# Altium schematic symbol library kmilo17pet-NSC_Switcher.SchLib: 2226 symbols (part 1 of 59)
Pins are listed as number, name and electrical type; pins without a type are passive.

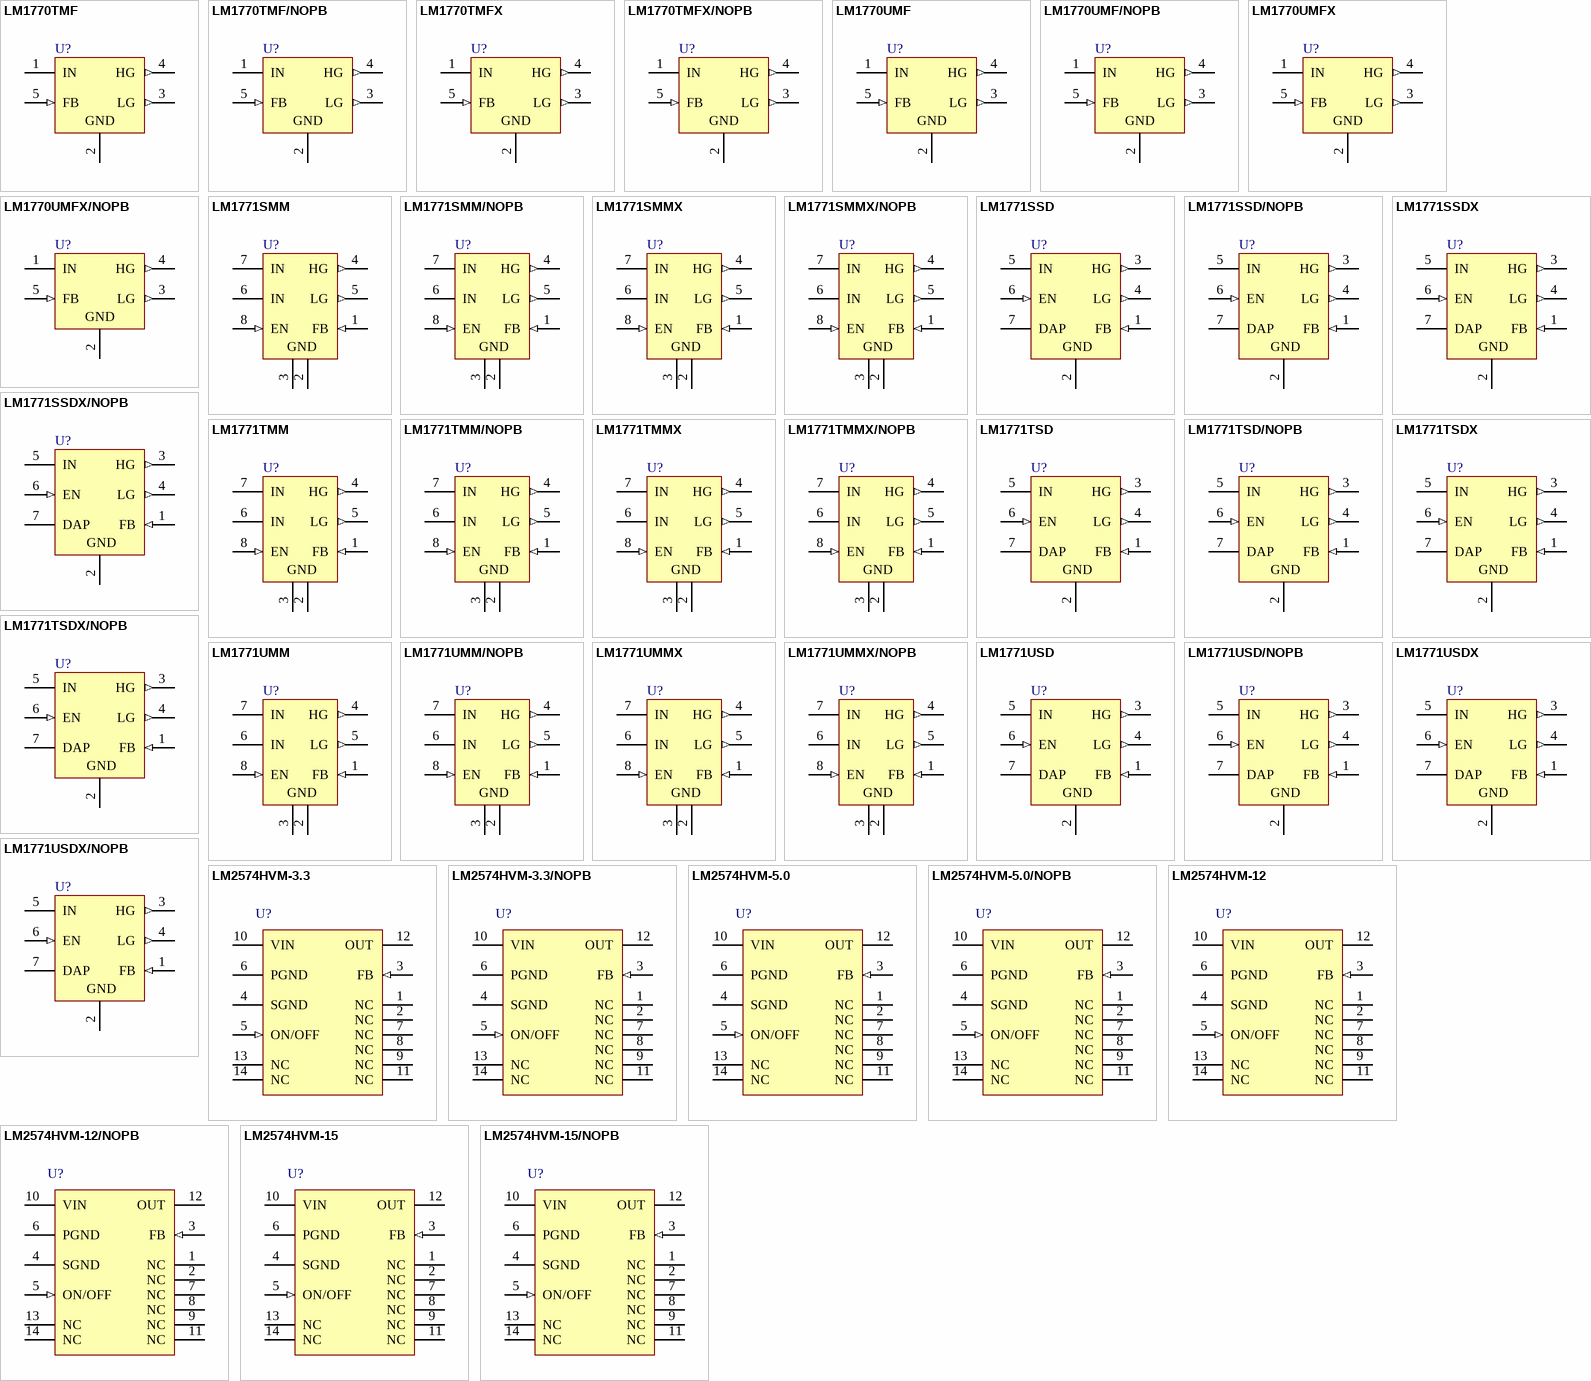
[diagram p0: symbols LM1770TMF to LM2574HVM-15/NOPB]

## LM1770TMF
designator U?
Low-Voltage Synchronous Buck Controller With No External Compensation, 5-pin SOT-23; PartNumber: LM1770TMF; Manufacturer: National Semiconductor; PackageTopMarking: SKKB*XTT; PowerWise: Y; CompType: Switcher; DatasheetVersion: Jul-2006; PackageVersion: revD, Aug-2008; PackageReference: MF05A; PackageDescription: Molded SOT-23, .115 x .063 x .040 in Body, 5 Lead, .0375 in Pitch; RoHS: N; PinCount: 5; High-Reliability: Y; ComponentLink1Description: Manufacturer URL; ComponentLink1URL: http://www.national.com/; ComponentLink2Description: LM1770 Datasheet; ComponentLink2URL: http://www.national.com/ds/LM/LM1770.pdf; ComponentLink3Description: LM1770 Web Page; ComponentLink3URL: http://www.national.com/pf/LM/LM1770.html; ComponentLink4Description: MF05A Package Page; ComponentLink4URL: http://www.national.com/packaging/folders/mf05a.html
footprint MF05A_N (SOT23, 5-Leads, Body 2.9x1.6mm, Pitch 0.95mm, Lead Span 2.8mm, IPC Medium Density)
footprint MF05A_L (SOT23, 5-Leads, Body 2.9x1.6mm, Pitch 0.95mm, Lead Span 2.8mm, IPC High Density)
footprint MF05A_M (SOT23, 5-Leads, Body 2.9x1.6mm, Pitch 0.95mm, Lead Span 2.8mm, IPC Low Density)
pins: 1 IN (power), 2 GND (power), 3 LG (out), 4 HG (out), 5 FB (in)

## LM1770TMF/NOPB
designator U?
Low-Voltage Synchronous Buck Controller With No External Compensation, 5-pin SOT-23, Pb-Free; PartNumber: LM1770TMF/NOPB; Manufacturer: National Semiconductor; PackageTopMarking: SKKB*XTT; PowerWise: Y; CompType: Switcher; DatasheetVersion: Jul-2006; PackageVersion: revD, Aug-2008; PackageReference: MF05A; PackageDescription: Molded SOT-23, .115 x .063 x .040 in Body, 5 Lead, .0375 in Pitch; RoHS: Y; PinCount: 5; High-Reliability: Y; ComponentLink1Description: Manufacturer URL; ComponentLink1URL: http://www.national.com/; ComponentLink2Description: LM1770 Datasheet; ComponentLink2URL: http://www.national.com/ds/LM/LM1770.pdf; ComponentLink3Description: LM1770 Web Page; ComponentLink3URL: http://www.national.com/pf/LM/LM1770.html; ComponentLink4Description: MF05A Package Page; ComponentLink4URL: http://www.national.com/packaging/folders/mf05a.html
footprint MF05A_N (SOT23, 5-Leads, Body 2.9x1.6mm, Pitch 0.95mm, Lead Span 2.8mm, IPC Medium Density)
footprint MF05A_L (SOT23, 5-Leads, Body 2.9x1.6mm, Pitch 0.95mm, Lead Span 2.8mm, IPC High Density)
footprint MF05A_M (SOT23, 5-Leads, Body 2.9x1.6mm, Pitch 0.95mm, Lead Span 2.8mm, IPC Low Density)
pins: 1 IN (power), 2 GND (power), 3 LG (out), 4 HG (out), 5 FB (in)

## LM1770TMFX
designator U?
Low-Voltage Synchronous Buck Controller With No External Compensation, 5-pin SOT-23; PartNumber: LM1770TMFX; Manufacturer: National Semiconductor; PackageTopMarking: SKKB*XTT; PowerWise: Y; CompType: Switcher; DatasheetVersion: Jul-2006; PackageVersion: revD, Aug-2008; PackageReference: MF05A; PackageDescription: Molded SOT-23, .115 x .063 x .040 in Body, 5 Lead, .0375 in Pitch; RoHS: N; PinCount: 5; High-Reliability: Y; ComponentLink1Description: Manufacturer URL; ComponentLink1URL: http://www.national.com/; ComponentLink2Description: LM1770 Datasheet; ComponentLink2URL: http://www.national.com/ds/LM/LM1770.pdf; ComponentLink3Description: LM1770 Web Page; ComponentLink3URL: http://www.national.com/pf/LM/LM1770.html; ComponentLink4Description: MF05A Package Page; ComponentLink4URL: http://www.national.com/packaging/folders/mf05a.html
footprint MF05A_N (SOT23, 5-Leads, Body 2.9x1.6mm, Pitch 0.95mm, Lead Span 2.8mm, IPC Medium Density)
footprint MF05A_L (SOT23, 5-Leads, Body 2.9x1.6mm, Pitch 0.95mm, Lead Span 2.8mm, IPC High Density)
footprint MF05A_M (SOT23, 5-Leads, Body 2.9x1.6mm, Pitch 0.95mm, Lead Span 2.8mm, IPC Low Density)
pins: 1 IN (power), 2 GND (power), 3 LG (out), 4 HG (out), 5 FB (in)

## LM1770TMFX/NOPB
designator U?
Low-Voltage Synchronous Buck Controller With No External Compensation, 5-pin SOT-23, Pb-Free; PartNumber: LM1770TMFX/NOPB; Manufacturer: National Semiconductor; PackageTopMarking: SKKB*XTT; PowerWise: Y; CompType: Switcher; DatasheetVersion: Jul-2006; PackageVersion: revD, Aug-2008; PackageReference: MF05A; PackageDescription: Molded SOT-23, .115 x .063 x .040 in Body, 5 Lead, .0375 in Pitch; RoHS: Y; PinCount: 5; High-Reliability: Y; ComponentLink1Description: Manufacturer URL; ComponentLink1URL: http://www.national.com/; ComponentLink2Description: LM1770 Datasheet; ComponentLink2URL: http://www.national.com/ds/LM/LM1770.pdf; ComponentLink3Description: LM1770 Web Page; ComponentLink3URL: http://www.national.com/pf/LM/LM1770.html; ComponentLink4Description: MF05A Package Page; ComponentLink4URL: http://www.national.com/packaging/folders/mf05a.html
footprint MF05A_N (SOT23, 5-Leads, Body 2.9x1.6mm, Pitch 0.95mm, Lead Span 2.8mm, IPC Medium Density)
footprint MF05A_L (SOT23, 5-Leads, Body 2.9x1.6mm, Pitch 0.95mm, Lead Span 2.8mm, IPC High Density)
footprint MF05A_M (SOT23, 5-Leads, Body 2.9x1.6mm, Pitch 0.95mm, Lead Span 2.8mm, IPC Low Density)
pins: 1 IN (power), 2 GND (power), 3 LG (out), 4 HG (out), 5 FB (in)

## LM1770UMF
designator U?
Low-Voltage Synchronous Buck Controller With No External Compensation, 5-pin SOT-23; PartNumber: LM1770UMF; Manufacturer: National Semiconductor; PackageTopMarking: SKLB*XTT; PowerWise: Y; CompType: Switcher; DatasheetVersion: Jul-2006; PackageVersion: revD, Aug-2008; PackageReference: MF05A; PackageDescription: Molded SOT-23, .115 x .063 x .040 in Body, 5 Lead, .0375 in Pitch; RoHS: N; PinCount: 5; High-Reliability: Y; ComponentLink1Description: Manufacturer URL; ComponentLink1URL: http://www.national.com/; ComponentLink2Description: LM1770 Datasheet; ComponentLink2URL: http://www.national.com/ds/LM/LM1770.pdf; ComponentLink3Description: LM1770 Web Page; ComponentLink3URL: http://www.national.com/pf/LM/LM1770.html; ComponentLink4Description: MF05A Package Page; ComponentLink4URL: http://www.national.com/packaging/folders/mf05a.html
footprint MF05A_N (SOT23, 5-Leads, Body 2.9x1.6mm, Pitch 0.95mm, Lead Span 2.8mm, IPC Medium Density)
footprint MF05A_L (SOT23, 5-Leads, Body 2.9x1.6mm, Pitch 0.95mm, Lead Span 2.8mm, IPC High Density)
footprint MF05A_M (SOT23, 5-Leads, Body 2.9x1.6mm, Pitch 0.95mm, Lead Span 2.8mm, IPC Low Density)
pins: 1 IN (power), 2 GND (power), 3 LG (out), 4 HG (out), 5 FB (in)

## LM1770UMF/NOPB
designator U?
Low-Voltage Synchronous Buck Controller With No External Compensation, 5-pin SOT-23, Pb-Free; PartNumber: LM1770UMF/NOPB; Manufacturer: National Semiconductor; PackageTopMarking: SKLB*XTT; PowerWise: Y; CompType: Switcher; DatasheetVersion: Jul-2006; PackageVersion: revD, Aug-2008; PackageReference: MF05A; PackageDescription: Molded SOT-23, .115 x .063 x .040 in Body, 5 Lead, .0375 in Pitch; RoHS: Y; PinCount: 5; High-Reliability: Y; ComponentLink1Description: Manufacturer URL; ComponentLink1URL: http://www.national.com/; ComponentLink2Description: LM1770 Datasheet; ComponentLink2URL: http://www.national.com/ds/LM/LM1770.pdf; ComponentLink3Description: LM1770 Web Page; ComponentLink3URL: http://www.national.com/pf/LM/LM1770.html; ComponentLink4Description: MF05A Package Page; ComponentLink4URL: http://www.national.com/packaging/folders/mf05a.html
footprint MF05A_N (SOT23, 5-Leads, Body 2.9x1.6mm, Pitch 0.95mm, Lead Span 2.8mm, IPC Medium Density)
footprint MF05A_L (SOT23, 5-Leads, Body 2.9x1.6mm, Pitch 0.95mm, Lead Span 2.8mm, IPC High Density)
footprint MF05A_M (SOT23, 5-Leads, Body 2.9x1.6mm, Pitch 0.95mm, Lead Span 2.8mm, IPC Low Density)
pins: 1 IN (power), 2 GND (power), 3 LG (out), 4 HG (out), 5 FB (in)

## LM1770UMFX
designator U?
Low-Voltage Synchronous Buck Controller With No External Compensation, 5-pin SOT-23; PartNumber: LM1770UMFX; Manufacturer: National Semiconductor; PackageTopMarking: SKLB*XTT; PowerWise: Y; CompType: Switcher; DatasheetVersion: Jul-2006; PackageVersion: revD, Aug-2008; PackageReference: MF05A; PackageDescription: Molded SOT-23, .115 x .063 x .040 in Body, 5 Lead, .0375 in Pitch; RoHS: N; PinCount: 5; High-Reliability: Y; ComponentLink1Description: Manufacturer URL; ComponentLink1URL: http://www.national.com/; ComponentLink2Description: LM1770 Datasheet; ComponentLink2URL: http://www.national.com/ds/LM/LM1770.pdf; ComponentLink3Description: LM1770 Web Page; ComponentLink3URL: http://www.national.com/pf/LM/LM1770.html; ComponentLink4Description: MF05A Package Page; ComponentLink4URL: http://www.national.com/packaging/folders/mf05a.html
footprint MF05A_N (SOT23, 5-Leads, Body 2.9x1.6mm, Pitch 0.95mm, Lead Span 2.8mm, IPC Medium Density)
footprint MF05A_L (SOT23, 5-Leads, Body 2.9x1.6mm, Pitch 0.95mm, Lead Span 2.8mm, IPC High Density)
footprint MF05A_M (SOT23, 5-Leads, Body 2.9x1.6mm, Pitch 0.95mm, Lead Span 2.8mm, IPC Low Density)
pins: 1 IN (power), 2 GND (power), 3 LG (out), 4 HG (out), 5 FB (in)

## LM1770UMFX/NOPB
designator U?
Low-Voltage Synchronous Buck Controller With No External Compensation, 5-pin SOT-23, Pb-Free; PartNumber: LM1770UMFX/NOPB; Manufacturer: National Semiconductor; PackageTopMarking: SKLB*XTT; PowerWise: Y; CompType: Switcher; DatasheetVersion: Jul-2006; PackageVersion: revD, Aug-2008; PackageReference: MF05A; PackageDescription: Molded SOT-23, .115 x .063 x .040 in Body, 5 Lead, .0375 in Pitch; RoHS: Y; PinCount: 5; High-Reliability: Y; ComponentLink1Description: Manufacturer URL; ComponentLink1URL: http://www.national.com/; ComponentLink2Description: LM1770 Datasheet; ComponentLink2URL: http://www.national.com/ds/LM/LM1770.pdf; ComponentLink3Description: LM1770 Web Page; ComponentLink3URL: http://www.national.com/pf/LM/LM1770.html; ComponentLink4Description: MF05A Package Page; ComponentLink4URL: http://www.national.com/packaging/folders/mf05a.html
footprint MF05A_N (SOT23, 5-Leads, Body 2.9x1.6mm, Pitch 0.95mm, Lead Span 2.8mm, IPC Medium Density)
footprint MF05A_L (SOT23, 5-Leads, Body 2.9x1.6mm, Pitch 0.95mm, Lead Span 2.8mm, IPC High Density)
footprint MF05A_M (SOT23, 5-Leads, Body 2.9x1.6mm, Pitch 0.95mm, Lead Span 2.8mm, IPC Low Density)
pins: 1 IN (power), 2 GND (power), 3 LG (out), 4 HG (out), 5 FB (in)

## LM1771SMM
designator U?
Low-Voltage Synchronous Buck Controller with Precision Enable and No External Compensation, 8-pin MSOP; PartNumber: LM1771SMM; Manufacturer: National Semiconductor; PackageTopMarking: ZXTT*SNRB; PowerWise: N; CompType: Switcher; High-Reliability: Y; DatasheetVersion: Oct-2006; PackageVersion: revF, Apr-2008; PackageReference: MUA08A; PackageDescription: MINI SOIC, .118 x .118 x .034in, 8 Lead, .0256in Pitch; RoHS: N; PinCount: 8; Code_JEDEC: MO-187-AA; ComponentLink1Description: Manufacturer URL; ComponentLink1URL: http://www.national.com/; ComponentLink2Description: LM1771 Datasheet; ComponentLink2URL: http://www.national.com/ds/LM/LM1771.pdf; ComponentLink3Description: LM1771 Web Page; ComponentLink3URL: http://www.national.com/pf/LM/LM1771.html; ComponentLink4Description: MUA08A Package Page; ComponentLink4URL: http://www.national.com/packaging/folders/mua08a.html
footprint MUA08A_N (TSOP, 8-Leads, Body 3x3mm, Pitch 0.65mm, IPC Medium Density)
footprint MUA08A_L (TSOP, 8-Leads, Body 3x3mm, Pitch 0.65mm, IPC High Density)
footprint MUA08A_M (TSOP, 8-Leads, Body 3x3mm, Pitch 0.65mm, IPC Low Density)
pins: 1 FB (in), 2 GND (power), 3 GND (power), 4 HG (out), 5 LG (out), 6 IN (power), 7 IN (power), 8 EN (in)

## LM1771SMM/NOPB
designator U?
Low-Voltage Synchronous Buck Controller with Precision Enable and No External Compensation, 8-pin MSOP, Pb-Free; PartNumber: LM1771SMM/NOPB; Manufacturer: National Semiconductor; PackageTopMarking: ZXTT*SNRB; PowerWise: N; CompType: Switcher; High-Reliability: Y; DatasheetVersion: Oct-2006; PackageVersion: revF, Apr-2008; PackageReference: MUA08A; PackageDescription: MINI SOIC, .118 x .118 x .034in, 8 Lead, .0256in Pitch; RoHS: Y; PinCount: 8; Code_JEDEC: MO-187-AA; ComponentLink1Description: Manufacturer URL; ComponentLink1URL: http://www.national.com/; ComponentLink2Description: LM1771 Datasheet; ComponentLink2URL: http://www.national.com/ds/LM/LM1771.pdf; ComponentLink3Description: LM1771 Web Page; ComponentLink3URL: http://www.national.com/pf/LM/LM1771.html; ComponentLink4Description: MUA08A Package Page; ComponentLink4URL: http://www.national.com/packaging/folders/mua08a.html
footprint MUA08A_N (TSOP, 8-Leads, Body 3x3mm, Pitch 0.65mm, IPC Medium Density)
footprint MUA08A_L (TSOP, 8-Leads, Body 3x3mm, Pitch 0.65mm, IPC High Density)
footprint MUA08A_M (TSOP, 8-Leads, Body 3x3mm, Pitch 0.65mm, IPC Low Density)
pins: 1 FB (in), 2 GND (power), 3 GND (power), 4 HG (out), 5 LG (out), 6 IN (power), 7 IN (power), 8 EN (in)

## LM1771SMMX
designator U?
Low-Voltage Synchronous Buck Controller with Precision Enable and No External Compensation, 8-pin MSOP; PartNumber: LM1771SMMX; Manufacturer: National Semiconductor; PackageTopMarking: ZXTT*SNRB; PowerWise: N; CompType: Switcher; High-Reliability: Y; DatasheetVersion: Oct-2006; PackageVersion: revF, Apr-2008; PackageReference: MUA08A; PackageDescription: MINI SOIC, .118 x .118 x .034in, 8 Lead, .0256in Pitch; RoHS: N; PinCount: 8; Code_JEDEC: MO-187-AA; ComponentLink1Description: Manufacturer URL; ComponentLink1URL: http://www.national.com/; ComponentLink2Description: LM1771 Datasheet; ComponentLink2URL: http://www.national.com/ds/LM/LM1771.pdf; ComponentLink3Description: LM1771 Web Page; ComponentLink3URL: http://www.national.com/pf/LM/LM1771.html; ComponentLink4Description: MUA08A Package Page; ComponentLink4URL: http://www.national.com/packaging/folders/mua08a.html
footprint MUA08A_N (TSOP, 8-Leads, Body 3x3mm, Pitch 0.65mm, IPC Medium Density)
footprint MUA08A_L (TSOP, 8-Leads, Body 3x3mm, Pitch 0.65mm, IPC High Density)
footprint MUA08A_M (TSOP, 8-Leads, Body 3x3mm, Pitch 0.65mm, IPC Low Density)
pins: 1 FB (in), 2 GND (power), 3 GND (power), 4 HG (out), 5 LG (out), 6 IN (power), 7 IN (power), 8 EN (in)

## LM1771SMMX/NOPB
designator U?
Low-Voltage Synchronous Buck Controller with Precision Enable and No External Compensation, 8-pin MSOP, Pb-Free; PartNumber: LM1771SMMX/NOPB; Manufacturer: National Semiconductor; PackageTopMarking: ZXTT*SNRB; PowerWise: N; CompType: Switcher; High-Reliability: Y; DatasheetVersion: Oct-2006; PackageVersion: revF, Apr-2008; PackageReference: MUA08A; PackageDescription: MINI SOIC, .118 x .118 x .034in, 8 Lead, .0256in Pitch; RoHS: Y; PinCount: 8; Code_JEDEC: MO-187-AA; ComponentLink1Description: Manufacturer URL; ComponentLink1URL: http://www.national.com/; ComponentLink2Description: LM1771 Datasheet; ComponentLink2URL: http://www.national.com/ds/LM/LM1771.pdf; ComponentLink3Description: LM1771 Web Page; ComponentLink3URL: http://www.national.com/pf/LM/LM1771.html; ComponentLink4Description: MUA08A Package Page; ComponentLink4URL: http://www.national.com/packaging/folders/mua08a.html
footprint MUA08A_N (TSOP, 8-Leads, Body 3x3mm, Pitch 0.65mm, IPC Medium Density)
footprint MUA08A_L (TSOP, 8-Leads, Body 3x3mm, Pitch 0.65mm, IPC High Density)
footprint MUA08A_M (TSOP, 8-Leads, Body 3x3mm, Pitch 0.65mm, IPC Low Density)
pins: 1 FB (in), 2 GND (power), 3 GND (power), 4 HG (out), 5 LG (out), 6 IN (power), 7 IN (power), 8 EN (in)

## LM1771SSD
designator U?
Low-Voltage Synchronous Buck Controller with Precision Enable and No External Compensation, 6-pin LLP; PartNumber: LM1771SSD; Manufacturer: National Semiconductor; PackageTopMarking: ZXYTT*1771S; PowerWise: Y; CompType: Switcher; DatasheetVersion: Oct-2006; PackageVersion: revA, Jul-2003; PackageReference: SDE06A; PackageDescription: LLP, Plastic, Dual, 3 x 3 x 0.8mm Body, 6 Lead, 0.95mm Pitch, No Pullback; RoHS: N; PinCount: 6; High-Reliability: Y; ComponentLink1Description: Manufacturer URL; ComponentLink1URL: http://www.national.com/; ComponentLink2Description: LM1771 Datasheet; ComponentLink2URL: http://www.national.com/ds/LM/LM1771.pdf; ComponentLink3Description: LM1771 Web Page; ComponentLink3URL: http://www.national.com/pf/LM/LM1771.html; ComponentLink4Description: SDE06A Package Page; ComponentLink4URL: http://www.national.com/packaging/folders/sde06a.html
footprint SDE06A_full (SON, 6-Leads, Body 3x3 mm, Pitch 0.95mm, Full Paste, NSC Recommended)
footprint SDE06A_quad (SON, 6-Leads, Body 3x3 mm, Pitch 0.95mm, Quad Paste, NSC Recommended)
pins: 1 FB (in), 2 GND (power), 3 HG (out), 4 LG (out), 5 IN (power), 6 EN (in), 7 DAP (power)

## LM1771SSD/NOPB
designator U?
Low-Voltage Synchronous Buck Controller with Precision Enable and No External Compensation, 6-pin LLP, Pb-Free; PartNumber: LM1771SSD/NOPB; Manufacturer: National Semiconductor; PackageTopMarking: ZXYTT*1771S; PowerWise: Y; CompType: Switcher; DatasheetVersion: Oct-2006; PackageVersion: revA, Jul-2003; PackageReference: SDE06A; PackageDescription: LLP, Plastic, Dual, 3 x 3 x 0.8mm Body, 6 Lead, 0.95mm Pitch, No Pullback; RoHS: Y; PinCount: 6; High-Reliability: Y; ComponentLink1Description: Manufacturer URL; ComponentLink1URL: http://www.national.com/; ComponentLink2Description: LM1771 Datasheet; ComponentLink2URL: http://www.national.com/ds/LM/LM1771.pdf; ComponentLink3Description: LM1771 Web Page; ComponentLink3URL: http://www.national.com/pf/LM/LM1771.html; ComponentLink4Description: SDE06A Package Page; ComponentLink4URL: http://www.national.com/packaging/folders/sde06a.html
footprint SDE06A_full (SON, 6-Leads, Body 3x3 mm, Pitch 0.95mm, Full Paste, NSC Recommended)
footprint SDE06A_quad (SON, 6-Leads, Body 3x3 mm, Pitch 0.95mm, Quad Paste, NSC Recommended)
pins: 1 FB (in), 2 GND (power), 3 HG (out), 4 LG (out), 5 IN (power), 6 EN (in), 7 DAP (power)

## LM1771SSDX
designator U?
Low-Voltage Synchronous Buck Controller with Precision Enable and No External Compensation, 6-pin LLP; PartNumber: LM1771SSDX; Manufacturer: National Semiconductor; PackageTopMarking: ZXYTT*1771S; PowerWise: Y; CompType: Switcher; DatasheetVersion: Oct-2006; PackageVersion: revA, Jul-2003; PackageReference: SDE06A; PackageDescription: LLP, Plastic, Dual, 3 x 3 x 0.8mm Body, 6 Lead, 0.95mm Pitch, No Pullback; RoHS: N; PinCount: 6; High-Reliability: Y; ComponentLink1Description: Manufacturer URL; ComponentLink1URL: http://www.national.com/; ComponentLink2Description: LM1771 Datasheet; ComponentLink2URL: http://www.national.com/ds/LM/LM1771.pdf; ComponentLink3Description: LM1771 Web Page; ComponentLink3URL: http://www.national.com/pf/LM/LM1771.html; ComponentLink4Description: SDE06A Package Page; ComponentLink4URL: http://www.national.com/packaging/folders/sde06a.html
footprint SDE06A_full (SON, 6-Leads, Body 3x3 mm, Pitch 0.95mm, Full Paste, NSC Recommended)
footprint SDE06A_quad (SON, 6-Leads, Body 3x3 mm, Pitch 0.95mm, Quad Paste, NSC Recommended)
pins: 1 FB (in), 2 GND (power), 3 HG (out), 4 LG (out), 5 IN (power), 6 EN (in), 7 DAP (power)

## LM1771SSDX/NOPB
designator U?
Low-Voltage Synchronous Buck Controller with Precision Enable and No External Compensation, 6-pin LLP, Pb-Free; PartNumber: LM1771SSDX/NOPB; Manufacturer: National Semiconductor; PackageTopMarking: ZXYTT*1771S; PowerWise: Y; CompType: Switcher; DatasheetVersion: Oct-2006; PackageVersion: revA, Jul-2003; PackageReference: SDE06A; PackageDescription: LLP, Plastic, Dual, 3 x 3 x 0.8mm Body, 6 Lead, 0.95mm Pitch, No Pullback; RoHS: Y; PinCount: 6; High-Reliability: Y; ComponentLink1Description: Manufacturer URL; ComponentLink1URL: http://www.national.com/; ComponentLink2Description: LM1771 Datasheet; ComponentLink2URL: http://www.national.com/ds/LM/LM1771.pdf; ComponentLink3Description: LM1771 Web Page; ComponentLink3URL: http://www.national.com/pf/LM/LM1771.html; ComponentLink4Description: SDE06A Package Page; ComponentLink4URL: http://www.national.com/packaging/folders/sde06a.html
footprint SDE06A_full (SON, 6-Leads, Body 3x3 mm, Pitch 0.95mm, Full Paste, NSC Recommended)
footprint SDE06A_quad (SON, 6-Leads, Body 3x3 mm, Pitch 0.95mm, Quad Paste, NSC Recommended)
pins: 1 FB (in), 2 GND (power), 3 HG (out), 4 LG (out), 5 IN (power), 6 EN (in), 7 DAP (power)

## LM1771TMM
designator U?
Low-Voltage Synchronous Buck Controller with Precision Enable and No External Compensation, 8-pin MSOP; PartNumber: LM1771TMM; Manufacturer: National Semiconductor; PackageTopMarking: ZXTT*SNSB; PowerWise: N; CompType: Switcher; High-Reliability: Y; DatasheetVersion: Oct-2006; PackageVersion: revF, Apr-2008; PackageReference: MUA08A; PackageDescription: MINI SOIC, .118 x .118 x .034in, 8 Lead, .0256in Pitch; RoHS: N; PinCount: 8; Code_JEDEC: MO-187-AA; ComponentLink1Description: Manufacturer URL; ComponentLink1URL: http://www.national.com/; ComponentLink2Description: LM1771 Datasheet; ComponentLink2URL: http://www.national.com/ds/LM/LM1771.pdf; ComponentLink3Description: LM1771 Web Page; ComponentLink3URL: http://www.national.com/pf/LM/LM1771.html; ComponentLink4Description: MUA08A Package Page; ComponentLink4URL: http://www.national.com/packaging/folders/mua08a.html
footprint MUA08A_N (TSOP, 8-Leads, Body 3x3mm, Pitch 0.65mm, IPC Medium Density)
footprint MUA08A_L (TSOP, 8-Leads, Body 3x3mm, Pitch 0.65mm, IPC High Density)
footprint MUA08A_M (TSOP, 8-Leads, Body 3x3mm, Pitch 0.65mm, IPC Low Density)
pins: 1 FB (in), 2 GND (power), 3 GND (power), 4 HG (out), 5 LG (out), 6 IN (power), 7 IN (power), 8 EN (in)

## LM1771TMM/NOPB
designator U?
Low-Voltage Synchronous Buck Controller with Precision Enable and No External Compensation, 8-pin MSOP, Pb-Free; PartNumber: LM1771TMM/NOPB; Manufacturer: National Semiconductor; PackageTopMarking: ZXTT*SNSB; PowerWise: N; CompType: Switcher; High-Reliability: Y; DatasheetVersion: Oct-2006; PackageVersion: revF, Apr-2008; PackageReference: MUA08A; PackageDescription: MINI SOIC, .118 x .118 x .034in, 8 Lead, .0256in Pitch; RoHS: Y; PinCount: 8; Code_JEDEC: MO-187-AA; ComponentLink1Description: Manufacturer URL; ComponentLink1URL: http://www.national.com/; ComponentLink2Description: LM1771 Datasheet; ComponentLink2URL: http://www.national.com/ds/LM/LM1771.pdf; ComponentLink3Description: LM1771 Web Page; ComponentLink3URL: http://www.national.com/pf/LM/LM1771.html; ComponentLink4Description: MUA08A Package Page; ComponentLink4URL: http://www.national.com/packaging/folders/mua08a.html
footprint MUA08A_N (TSOP, 8-Leads, Body 3x3mm, Pitch 0.65mm, IPC Medium Density)
footprint MUA08A_L (TSOP, 8-Leads, Body 3x3mm, Pitch 0.65mm, IPC High Density)
footprint MUA08A_M (TSOP, 8-Leads, Body 3x3mm, Pitch 0.65mm, IPC Low Density)
pins: 1 FB (in), 2 GND (power), 3 GND (power), 4 HG (out), 5 LG (out), 6 IN (power), 7 IN (power), 8 EN (in)

## LM1771TMMX
designator U?
Low-Voltage Synchronous Buck Controller with Precision Enable and No External Compensation, 8-pin MSOP; PartNumber: LM1771TMMX; Manufacturer: National Semiconductor; PackageTopMarking: ZXTT*SNSB; PowerWise: N; CompType: Switcher; High-Reliability: Y; DatasheetVersion: Oct-2006; PackageVersion: revF, Apr-2008; PackageReference: MUA08A; PackageDescription: MINI SOIC, .118 x .118 x .034in, 8 Lead, .0256in Pitch; RoHS: N; PinCount: 8; Code_JEDEC: MO-187-AA; ComponentLink1Description: Manufacturer URL; ComponentLink1URL: http://www.national.com/; ComponentLink2Description: LM1771 Datasheet; ComponentLink2URL: http://www.national.com/ds/LM/LM1771.pdf; ComponentLink3Description: LM1771 Web Page; ComponentLink3URL: http://www.national.com/pf/LM/LM1771.html; ComponentLink4Description: MUA08A Package Page; ComponentLink4URL: http://www.national.com/packaging/folders/mua08a.html
footprint MUA08A_N (TSOP, 8-Leads, Body 3x3mm, Pitch 0.65mm, IPC Medium Density)
footprint MUA08A_L (TSOP, 8-Leads, Body 3x3mm, Pitch 0.65mm, IPC High Density)
footprint MUA08A_M (TSOP, 8-Leads, Body 3x3mm, Pitch 0.65mm, IPC Low Density)
pins: 1 FB (in), 2 GND (power), 3 GND (power), 4 HG (out), 5 LG (out), 6 IN (power), 7 IN (power), 8 EN (in)

## LM1771TMMX/NOPB
designator U?
Low-Voltage Synchronous Buck Controller with Precision Enable and No External Compensation, 8-pin MSOP, Pb-Free; PartNumber: LM1771TMMX/NOPB; Manufacturer: National Semiconductor; PackageTopMarking: ZXTT*SNSB; PowerWise: N; CompType: Switcher; High-Reliability: Y; DatasheetVersion: Oct-2006; PackageVersion: revF, Apr-2008; PackageReference: MUA08A; PackageDescription: MINI SOIC, .118 x .118 x .034in, 8 Lead, .0256in Pitch; RoHS: Y; PinCount: 8; Code_JEDEC: MO-187-AA; ComponentLink1Description: Manufacturer URL; ComponentLink1URL: http://www.national.com/; ComponentLink2Description: LM1771 Datasheet; ComponentLink2URL: http://www.national.com/ds/LM/LM1771.pdf; ComponentLink3Description: LM1771 Web Page; ComponentLink3URL: http://www.national.com/pf/LM/LM1771.html; ComponentLink4Description: MUA08A Package Page; ComponentLink4URL: http://www.national.com/packaging/folders/mua08a.html
footprint MUA08A_N (TSOP, 8-Leads, Body 3x3mm, Pitch 0.65mm, IPC Medium Density)
footprint MUA08A_L (TSOP, 8-Leads, Body 3x3mm, Pitch 0.65mm, IPC High Density)
footprint MUA08A_M (TSOP, 8-Leads, Body 3x3mm, Pitch 0.65mm, IPC Low Density)
pins: 1 FB (in), 2 GND (power), 3 GND (power), 4 HG (out), 5 LG (out), 6 IN (power), 7 IN (power), 8 EN (in)

## LM1771TSD
designator U?
Low-Voltage Synchronous Buck Controller with Precision Enable and No External Compensation, 6-pin LLP; PartNumber: LM1771TSD; Manufacturer: National Semiconductor; PackageTopMarking: ZXYTT*1771T; PowerWise: Y; CompType: Switcher; DatasheetVersion: Oct-2006; PackageVersion: revA, Jul-2003; PackageReference: SDE06A; PackageDescription: LLP, Plastic, Dual, 3 x 3 x 0.8mm Body, 6 Lead, 0.95mm Pitch, No Pullback; RoHS: N; PinCount: 6; High-Reliability: Y; ComponentLink1Description: Manufacturer URL; ComponentLink1URL: http://www.national.com/; ComponentLink2Description: LM1771 Datasheet; ComponentLink2URL: http://www.national.com/ds/LM/LM1771.pdf; ComponentLink3Description: LM1771 Web Page; ComponentLink3URL: http://www.national.com/pf/LM/LM1771.html; ComponentLink4Description: SDE06A Package Page; ComponentLink4URL: http://www.national.com/packaging/folders/sde06a.html
footprint SDE06A_full (SON, 6-Leads, Body 3x3 mm, Pitch 0.95mm, Full Paste, NSC Recommended)
footprint SDE06A_quad (SON, 6-Leads, Body 3x3 mm, Pitch 0.95mm, Quad Paste, NSC Recommended)
pins: 1 FB (in), 2 GND (power), 3 HG (out), 4 LG (out), 5 IN (power), 6 EN (in), 7 DAP (power)

## LM1771TSD/NOPB
designator U?
Low-Voltage Synchronous Buck Controller with Precision Enable and No External Compensation, 6-pin LLP, Pb-Free; PartNumber: LM1771TSD/NOPB; Manufacturer: National Semiconductor; PackageTopMarking: ZXYTT*1771T; PowerWise: Y; CompType: Switcher; DatasheetVersion: Oct-2006; PackageVersion: revA, Jul-2003; PackageReference: SDE06A; PackageDescription: LLP, Plastic, Dual, 3 x 3 x 0.8mm Body, 6 Lead, 0.95mm Pitch, No Pullback; RoHS: Y; PinCount: 6; High-Reliability: Y; ComponentLink1Description: Manufacturer URL; ComponentLink1URL: http://www.national.com/; ComponentLink2Description: LM1771 Datasheet; ComponentLink2URL: http://www.national.com/ds/LM/LM1771.pdf; ComponentLink3Description: LM1771 Web Page; ComponentLink3URL: http://www.national.com/pf/LM/LM1771.html; ComponentLink4Description: SDE06A Package Page; ComponentLink4URL: http://www.national.com/packaging/folders/sde06a.html
footprint SDE06A_full (SON, 6-Leads, Body 3x3 mm, Pitch 0.95mm, Full Paste, NSC Recommended)
footprint SDE06A_quad (SON, 6-Leads, Body 3x3 mm, Pitch 0.95mm, Quad Paste, NSC Recommended)
pins: 1 FB (in), 2 GND (power), 3 HG (out), 4 LG (out), 5 IN (power), 6 EN (in), 7 DAP (power)

## LM1771TSDX
designator U?
Low-Voltage Synchronous Buck Controller with Precision Enable and No External Compensation, 6-pin LLP; PartNumber: LM1771TSDX; Manufacturer: National Semiconductor; PackageTopMarking: ZXYTT*1771T; PowerWise: Y; CompType: Switcher; DatasheetVersion: Oct-2006; PackageVersion: revA, Jul-2003; PackageReference: SDE06A; PackageDescription: LLP, Plastic, Dual, 3 x 3 x 0.8mm Body, 6 Lead, 0.95mm Pitch, No Pullback; RoHS: N; PinCount: 6; High-Reliability: Y; ComponentLink1Description: Manufacturer URL; ComponentLink1URL: http://www.national.com/; ComponentLink2Description: LM1771 Datasheet; ComponentLink2URL: http://www.national.com/ds/LM/LM1771.pdf; ComponentLink3Description: LM1771 Web Page; ComponentLink3URL: http://www.national.com/pf/LM/LM1771.html; ComponentLink4Description: SDE06A Package Page; ComponentLink4URL: http://www.national.com/packaging/folders/sde06a.html
footprint SDE06A_full (SON, 6-Leads, Body 3x3 mm, Pitch 0.95mm, Full Paste, NSC Recommended)
footprint SDE06A_quad (SON, 6-Leads, Body 3x3 mm, Pitch 0.95mm, Quad Paste, NSC Recommended)
pins: 1 FB (in), 2 GND (power), 3 HG (out), 4 LG (out), 5 IN (power), 6 EN (in), 7 DAP (power)

## LM1771TSDX/NOPB
designator U?
Low-Voltage Synchronous Buck Controller with Precision Enable and No External Compensation, 6-pin LLP, Pb-Free; PartNumber: LM1771TSDX/NOPB; Manufacturer: National Semiconductor; PackageTopMarking: ZXYTT*1771T; PowerWise: Y; CompType: Switcher; DatasheetVersion: Oct-2006; PackageVersion: revA, Jul-2003; PackageReference: SDE06A; PackageDescription: LLP, Plastic, Dual, 3 x 3 x 0.8mm Body, 6 Lead, 0.95mm Pitch, No Pullback; RoHS: Y; PinCount: 6; High-Reliability: Y; ComponentLink1Description: Manufacturer URL; ComponentLink1URL: http://www.national.com/; ComponentLink2Description: LM1771 Datasheet; ComponentLink2URL: http://www.national.com/ds/LM/LM1771.pdf; ComponentLink3Description: LM1771 Web Page; ComponentLink3URL: http://www.national.com/pf/LM/LM1771.html; ComponentLink4Description: SDE06A Package Page; ComponentLink4URL: http://www.national.com/packaging/folders/sde06a.html
footprint SDE06A_full (SON, 6-Leads, Body 3x3 mm, Pitch 0.95mm, Full Paste, NSC Recommended)
footprint SDE06A_quad (SON, 6-Leads, Body 3x3 mm, Pitch 0.95mm, Quad Paste, NSC Recommended)
pins: 1 FB (in), 2 GND (power), 3 HG (out), 4 LG (out), 5 IN (power), 6 EN (in), 7 DAP (power)

## LM1771UMM
designator U?
Low-Voltage Synchronous Buck Controller with Precision Enable and No External Compensation, 8-pin MSOP; PartNumber: LM1771UMM; Manufacturer: National Semiconductor; PackageTopMarking: ZXTT*SNTB; PowerWise: N; CompType: Switcher; High-Reliability: Y; DatasheetVersion: Oct-2006; PackageVersion: revF, Apr-2008; PackageReference: MUA08A; PackageDescription: MINI SOIC, .118 x .118 x .034in, 8 Lead, .0256in Pitch; RoHS: N; PinCount: 8; Code_JEDEC: MO-187-AA; ComponentLink1Description: Manufacturer URL; ComponentLink1URL: http://www.national.com/; ComponentLink2Description: LM1771 Datasheet; ComponentLink2URL: http://www.national.com/ds/LM/LM1771.pdf; ComponentLink3Description: LM1771 Web Page; ComponentLink3URL: http://www.national.com/pf/LM/LM1771.html; ComponentLink4Description: MUA08A Package Page; ComponentLink4URL: http://www.national.com/packaging/folders/mua08a.html
footprint MUA08A_N (TSOP, 8-Leads, Body 3x3mm, Pitch 0.65mm, IPC Medium Density)
footprint MUA08A_L (TSOP, 8-Leads, Body 3x3mm, Pitch 0.65mm, IPC High Density)
footprint MUA08A_M (TSOP, 8-Leads, Body 3x3mm, Pitch 0.65mm, IPC Low Density)
pins: 1 FB (in), 2 GND (power), 3 GND (power), 4 HG (out), 5 LG (out), 6 IN (power), 7 IN (power), 8 EN (in)

## LM1771UMM/NOPB
designator U?
Low-Voltage Synchronous Buck Controller with Precision Enable and No External Compensation, 8-pin MSOP, Pb-Free; PartNumber: LM1771UMM/NOPB; Manufacturer: National Semiconductor; PackageTopMarking: ZXTT*SNTB; PowerWise: N; CompType: Switcher; High-Reliability: Y; DatasheetVersion: Oct-2006; PackageVersion: revF, Apr-2008; PackageReference: MUA08A; PackageDescription: MINI SOIC, .118 x .118 x .034in, 8 Lead, .0256in Pitch; RoHS: Y; PinCount: 8; Code_JEDEC: MO-187-AA; ComponentLink1Description: Manufacturer URL; ComponentLink1URL: http://www.national.com/; ComponentLink2Description: LM1771 Datasheet; ComponentLink2URL: http://www.national.com/ds/LM/LM1771.pdf; ComponentLink3Description: LM1771 Web Page; ComponentLink3URL: http://www.national.com/pf/LM/LM1771.html; ComponentLink4Description: MUA08A Package Page; ComponentLink4URL: http://www.national.com/packaging/folders/mua08a.html
footprint MUA08A_N (TSOP, 8-Leads, Body 3x3mm, Pitch 0.65mm, IPC Medium Density)
footprint MUA08A_L (TSOP, 8-Leads, Body 3x3mm, Pitch 0.65mm, IPC High Density)
footprint MUA08A_M (TSOP, 8-Leads, Body 3x3mm, Pitch 0.65mm, IPC Low Density)
pins: 1 FB (in), 2 GND (power), 3 GND (power), 4 HG (out), 5 LG (out), 6 IN (power), 7 IN (power), 8 EN (in)

## LM1771UMMX
designator U?
Low-Voltage Synchronous Buck Controller with Precision Enable and No External Compensation, 8-pin MSOP; PartNumber: LM1771UMMX; Manufacturer: National Semiconductor; PackageTopMarking: ZXTT*SNTB; PowerWise: N; CompType: Switcher; High-Reliability: Y; DatasheetVersion: Oct-2006; PackageVersion: revF, Apr-2008; PackageReference: MUA08A; PackageDescription: MINI SOIC, .118 x .118 x .034in, 8 Lead, .0256in Pitch; RoHS: N; PinCount: 8; Code_JEDEC: MO-187-AA; ComponentLink1Description: Manufacturer URL; ComponentLink1URL: http://www.national.com/; ComponentLink2Description: LM1771 Datasheet; ComponentLink2URL: http://www.national.com/ds/LM/LM1771.pdf; ComponentLink3Description: LM1771 Web Page; ComponentLink3URL: http://www.national.com/pf/LM/LM1771.html; ComponentLink4Description: MUA08A Package Page; ComponentLink4URL: http://www.national.com/packaging/folders/mua08a.html
footprint MUA08A_N (TSOP, 8-Leads, Body 3x3mm, Pitch 0.65mm, IPC Medium Density)
footprint MUA08A_L (TSOP, 8-Leads, Body 3x3mm, Pitch 0.65mm, IPC High Density)
footprint MUA08A_M (TSOP, 8-Leads, Body 3x3mm, Pitch 0.65mm, IPC Low Density)
pins: 1 FB (in), 2 GND (power), 3 GND (power), 4 HG (out), 5 LG (out), 6 IN (power), 7 IN (power), 8 EN (in)

## LM1771UMMX/NOPB
designator U?
Low-Voltage Synchronous Buck Controller with Precision Enable and No External Compensation, 8-pin MSOP, Pb-Free; PartNumber: LM1771UMMX/NOPB; Manufacturer: National Semiconductor; PackageTopMarking: ZXTT*SNTB; PowerWise: N; CompType: Switcher; High-Reliability: Y; DatasheetVersion: Oct-2006; PackageVersion: revF, Apr-2008; PackageReference: MUA08A; PackageDescription: MINI SOIC, .118 x .118 x .034in, 8 Lead, .0256in Pitch; RoHS: Y; PinCount: 8; Code_JEDEC: MO-187-AA; ComponentLink1Description: Manufacturer URL; ComponentLink1URL: http://www.national.com/; ComponentLink2Description: LM1771 Datasheet; ComponentLink2URL: http://www.national.com/ds/LM/LM1771.pdf; ComponentLink3Description: LM1771 Web Page; ComponentLink3URL: http://www.national.com/pf/LM/LM1771.html; ComponentLink4Description: MUA08A Package Page; ComponentLink4URL: http://www.national.com/packaging/folders/mua08a.html
footprint MUA08A_N (TSOP, 8-Leads, Body 3x3mm, Pitch 0.65mm, IPC Medium Density)
footprint MUA08A_L (TSOP, 8-Leads, Body 3x3mm, Pitch 0.65mm, IPC High Density)
footprint MUA08A_M (TSOP, 8-Leads, Body 3x3mm, Pitch 0.65mm, IPC Low Density)
pins: 1 FB (in), 2 GND (power), 3 GND (power), 4 HG (out), 5 LG (out), 6 IN (power), 7 IN (power), 8 EN (in)

## LM1771USD
designator U?
Low-Voltage Synchronous Buck Controller with Precision Enable and No External Compensation, 6-pin LLP; PartNumber: LM1771USD; Manufacturer: National Semiconductor; PackageTopMarking: ZXYTT*1771U; PowerWise: Y; CompType: Switcher; DatasheetVersion: Oct-2006; PackageVersion: revA, Jul-2003; PackageReference: SDE06A; PackageDescription: LLP, Plastic, Dual, 3 x 3 x 0.8mm Body, 6 Lead, 0.95mm Pitch, No Pullback; RoHS: N; PinCount: 6; High-Reliability: Y; ComponentLink1Description: Manufacturer URL; ComponentLink1URL: http://www.national.com/; ComponentLink2Description: LM1771 Datasheet; ComponentLink2URL: http://www.national.com/ds/LM/LM1771.pdf; ComponentLink3Description: LM1771 Web Page; ComponentLink3URL: http://www.national.com/pf/LM/LM1771.html; ComponentLink4Description: SDE06A Package Page; ComponentLink4URL: http://www.national.com/packaging/folders/sde06a.html
footprint SDE06A_full (SON, 6-Leads, Body 3x3 mm, Pitch 0.95mm, Full Paste, NSC Recommended)
footprint SDE06A_quad (SON, 6-Leads, Body 3x3 mm, Pitch 0.95mm, Quad Paste, NSC Recommended)
pins: 1 FB (in), 2 GND (power), 3 HG (out), 4 LG (out), 5 IN (power), 6 EN (in), 7 DAP (power)

## LM1771USD/NOPB
designator U?
Low-Voltage Synchronous Buck Controller with Precision Enable and No External Compensation, 6-pin LLP, Pb-Free; PartNumber: LM1771USD/NOPB; Manufacturer: National Semiconductor; PackageTopMarking: ZXYTT*1771U; PowerWise: Y; CompType: Switcher; DatasheetVersion: Oct-2006; PackageVersion: revA, Jul-2003; PackageReference: SDE06A; PackageDescription: LLP, Plastic, Dual, 3 x 3 x 0.8mm Body, 6 Lead, 0.95mm Pitch, No Pullback; RoHS: Y; PinCount: 6; High-Reliability: Y; ComponentLink1Description: Manufacturer URL; ComponentLink1URL: http://www.national.com/; ComponentLink2Description: LM1771 Datasheet; ComponentLink2URL: http://www.national.com/ds/LM/LM1771.pdf; ComponentLink3Description: LM1771 Web Page; ComponentLink3URL: http://www.national.com/pf/LM/LM1771.html; ComponentLink4Description: SDE06A Package Page; ComponentLink4URL: http://www.national.com/packaging/folders/sde06a.html
footprint SDE06A_full (SON, 6-Leads, Body 3x3 mm, Pitch 0.95mm, Full Paste, NSC Recommended)
footprint SDE06A_quad (SON, 6-Leads, Body 3x3 mm, Pitch 0.95mm, Quad Paste, NSC Recommended)
pins: 1 FB (in), 2 GND (power), 3 HG (out), 4 LG (out), 5 IN (power), 6 EN (in), 7 DAP (power)

## LM1771USDX
designator U?
Low-Voltage Synchronous Buck Controller with Precision Enable and No External Compensation, 6-pin LLP; PartNumber: LM1771USDX; Manufacturer: National Semiconductor; PackageTopMarking: ZXYTT*1771U; PowerWise: Y; CompType: Switcher; DatasheetVersion: Oct-2006; PackageVersion: revA, Jul-2003; PackageReference: SDE06A; PackageDescription: LLP, Plastic, Dual, 3 x 3 x 0.8mm Body, 6 Lead, 0.95mm Pitch, No Pullback; RoHS: N; PinCount: 6; High-Reliability: Y; ComponentLink1Description: Manufacturer URL; ComponentLink1URL: http://www.national.com/; ComponentLink2Description: LM1771 Datasheet; ComponentLink2URL: http://www.national.com/ds/LM/LM1771.pdf; ComponentLink3Description: LM1771 Web Page; ComponentLink3URL: http://www.national.com/pf/LM/LM1771.html; ComponentLink4Description: SDE06A Package Page; ComponentLink4URL: http://www.national.com/packaging/folders/sde06a.html
footprint SDE06A_full (SON, 6-Leads, Body 3x3 mm, Pitch 0.95mm, Full Paste, NSC Recommended)
footprint SDE06A_quad (SON, 6-Leads, Body 3x3 mm, Pitch 0.95mm, Quad Paste, NSC Recommended)
pins: 1 FB (in), 2 GND (power), 3 HG (out), 4 LG (out), 5 IN (power), 6 EN (in), 7 DAP (power)

## LM1771USDX/NOPB
designator U?
Low-Voltage Synchronous Buck Controller with Precision Enable and No External Compensation, 6-pin LLP, Pb-Free; PartNumber: LM1771USDX/NOPB; Manufacturer: National Semiconductor; PackageTopMarking: ZXYTT*1771U; PowerWise: Y; CompType: Switcher; DatasheetVersion: Oct-2006; PackageVersion: revA, Jul-2003; PackageReference: SDE06A; PackageDescription: LLP, Plastic, Dual, 3 x 3 x 0.8mm Body, 6 Lead, 0.95mm Pitch, No Pullback; RoHS: Y; PinCount: 6; High-Reliability: Y; ComponentLink1Description: Manufacturer URL; ComponentLink1URL: http://www.national.com/; ComponentLink2Description: LM1771 Datasheet; ComponentLink2URL: http://www.national.com/ds/LM/LM1771.pdf; ComponentLink3Description: LM1771 Web Page; ComponentLink3URL: http://www.national.com/pf/LM/LM1771.html; ComponentLink4Description: SDE06A Package Page; ComponentLink4URL: http://www.national.com/packaging/folders/sde06a.html
footprint SDE06A_full (SON, 6-Leads, Body 3x3 mm, Pitch 0.95mm, Full Paste, NSC Recommended)
footprint SDE06A_quad (SON, 6-Leads, Body 3x3 mm, Pitch 0.95mm, Quad Paste, NSC Recommended)
pins: 1 FB (in), 2 GND (power), 3 HG (out), 4 LG (out), 5 IN (power), 6 EN (in), 7 DAP (power)

## LM2574HVM-3.3
designator U?
SIMPLE SWITCHER® 0.5A Step-Down Voltage Regulator, 14-pin Wide SOIC; PartNumber: LM2574HVM-3.3; Manufacturer: National Semiconductor; PackageTopMarking: NSUZXYTTE#*LM2574HVM*-3.3 P+; PowerWise: N; High-Reliability: Y; DatasheetVersion: Jun-1999; PackageVersion: revD, Feb-1987; PackageReference: M14B; PackageDescription: Molded Package, S.O., .300in Wide, 14 Lead; RoHS: N; PinCount: 14; CompType: Switcher; Code_JEDEC: MS-013-AF; Code_IPC: SOIC127P1030-14; ComponentLink1Description: Manufacturer URL; ComponentLink1URL: http://www.national.com/; ComponentLink2Description: LM2574HV Datasheet; ComponentLink2URL: http://www.national.com/ds/LM/LM2574HV.pdf; ComponentLink3Description: LM2574HV Web Page; ComponentLink3URL: http://www.national.com/pf/LM/LM2574HV.html; ComponentLink4Description: M14B Package Page; ComponentLink4URL: http://www.national.com/packaging/folders/m14b.html
footprint M14B_N (SOIC, 14-Leads, Body 9x7.5mm, Pitch 1.27mm, IPC Medium Density)
footprint M14B_L (SOIC, 14-Leads, Body 9x7.5mm, Pitch 1.27mm, IPC High Density)
footprint M14B_M (SOIC, 14-Leads, Body 9x7.5mm, Pitch 1.27mm, IPC Low Density)
pins: 1 NC, 2 NC, 3 FB (in), 4 SGND (power), 5 ON/OFF (in), 6 PGND (power), 7 NC, 8 NC, 9 NC, 10 VIN (power), 11 NC, 12 OUT (power), 13 NC, 14 NC

## LM2574HVM-3.3/NOPB
designator U?
SIMPLE SWITCHER® 0.5A Step-Down Voltage Regulator, 14-pin Wide SOIC, Pb-Free; PartNumber: LM2574HVM-3.3/NOPB; Manufacturer: National Semiconductor; PackageTopMarking: NSUZXYTTE#*LM2574HVM*-3.3 P+; PowerWise: N; High-Reliability: Y; DatasheetVersion: Jun-1999; PackageVersion: revD, Feb-1987; PackageReference: M14B; PackageDescription: Molded Package, S.O., .300in Wide, 14 Lead; RoHS: Y; PinCount: 14; CompType: Switcher; Code_JEDEC: MS-013-AF; Code_IPC: SOIC127P1030-14; ComponentLink1Description: Manufacturer URL; ComponentLink1URL: http://www.national.com/; ComponentLink2Description: LM2574HV Datasheet; ComponentLink2URL: http://www.national.com/ds/LM/LM2574HV.pdf; ComponentLink3Description: LM2574HV Web Page; ComponentLink3URL: http://www.national.com/pf/LM/LM2574HV.html; ComponentLink4Description: M14B Package Page; ComponentLink4URL: http://www.national.com/packaging/folders/m14b.html
footprint M14B_N (SOIC, 14-Leads, Body 9x7.5mm, Pitch 1.27mm, IPC Medium Density)
footprint M14B_L (SOIC, 14-Leads, Body 9x7.5mm, Pitch 1.27mm, IPC High Density)
footprint M14B_M (SOIC, 14-Leads, Body 9x7.5mm, Pitch 1.27mm, IPC Low Density)
pins: 1 NC, 2 NC, 3 FB (in), 4 SGND (power), 5 ON/OFF (in), 6 PGND (power), 7 NC, 8 NC, 9 NC, 10 VIN (power), 11 NC, 12 OUT (power), 13 NC, 14 NC

## LM2574HVM-5.0
designator U?
SIMPLE SWITCHER® 0.5A Step-Down Voltage Regulator, 14-pin Wide SOIC; PartNumber: LM2574HVM-5.0; Manufacturer: National Semiconductor; PackageTopMarking: NSUZXYTTE#*LM2574HVM*-5.0 P+; PowerWise: N; High-Reliability: Y; DatasheetVersion: Jun-1999; PackageVersion: revD, Feb-1987; PackageReference: M14B; PackageDescription: Molded Package, S.O., .300in Wide, 14 Lead; RoHS: N; PinCount: 14; CompType: Switcher; Code_JEDEC: MS-013-AF; Code_IPC: SOIC127P1030-14; ComponentLink1Description: Manufacturer URL; ComponentLink1URL: http://www.national.com/; ComponentLink2Description: LM2574HV Datasheet; ComponentLink2URL: http://www.national.com/ds/LM/LM2574HV.pdf; ComponentLink3Description: LM2574HV Web Page; ComponentLink3URL: http://www.national.com/pf/LM/LM2574HV.html; ComponentLink4Description: M14B Package Page; ComponentLink4URL: http://www.national.com/packaging/folders/m14b.html
footprint M14B_N (SOIC, 14-Leads, Body 9x7.5mm, Pitch 1.27mm, IPC Medium Density)
footprint M14B_L (SOIC, 14-Leads, Body 9x7.5mm, Pitch 1.27mm, IPC High Density)
footprint M14B_M (SOIC, 14-Leads, Body 9x7.5mm, Pitch 1.27mm, IPC Low Density)
pins: 1 NC, 2 NC, 3 FB (in), 4 SGND (power), 5 ON/OFF (in), 6 PGND (power), 7 NC, 8 NC, 9 NC, 10 VIN (power), 11 NC, 12 OUT (power), 13 NC, 14 NC

## LM2574HVM-5.0/NOPB
designator U?
SIMPLE SWITCHER® 0.5A Step-Down Voltage Regulator, 14-pin Wide SOIC, Pb-Free; PartNumber: LM2574HVM-5.0/NOPB; Manufacturer: National Semiconductor; PackageTopMarking: NSUZXYTTE#*LM2574HVM*-5.0 P+; PowerWise: N; High-Reliability: Y; DatasheetVersion: Jun-1999; PackageVersion: revD, Feb-1987; PackageReference: M14B; PackageDescription: Molded Package, S.O., .300in Wide, 14 Lead; RoHS: Y; PinCount: 14; CompType: Switcher; Code_JEDEC: MS-013-AF; Code_IPC: SOIC127P1030-14; ComponentLink1Description: Manufacturer URL; ComponentLink1URL: http://www.national.com/; ComponentLink2Description: LM2574HV Datasheet; ComponentLink2URL: http://www.national.com/ds/LM/LM2574HV.pdf; ComponentLink3Description: LM2574HV Web Page; ComponentLink3URL: http://www.national.com/pf/LM/LM2574HV.html; ComponentLink4Description: M14B Package Page; ComponentLink4URL: http://www.national.com/packaging/folders/m14b.html
footprint M14B_N (SOIC, 14-Leads, Body 9x7.5mm, Pitch 1.27mm, IPC Medium Density)
footprint M14B_L (SOIC, 14-Leads, Body 9x7.5mm, Pitch 1.27mm, IPC High Density)
footprint M14B_M (SOIC, 14-Leads, Body 9x7.5mm, Pitch 1.27mm, IPC Low Density)
pins: 1 NC, 2 NC, 3 FB (in), 4 SGND (power), 5 ON/OFF (in), 6 PGND (power), 7 NC, 8 NC, 9 NC, 10 VIN (power), 11 NC, 12 OUT (power), 13 NC, 14 NC

## LM2574HVM-12
designator U?
SIMPLE SWITCHER® 0.5A Step-Down Voltage Regulator, 14-pin Wide SOIC; PartNumber: LM2574HVM-12; Manufacturer: National Semiconductor; PackageTopMarking: NSUZXYTTE#*LM2574HVM*-12 P+; PowerWise: N; High-Reliability: Y; DatasheetVersion: Jun-1999; PackageVersion: revD, Feb-1987; PackageReference: M14B; PackageDescription: Molded Package, S.O., .300in Wide, 14 Lead; RoHS: N; PinCount: 14; CompType: Switcher; Code_JEDEC: MS-013-AF; Code_IPC: SOIC127P1030-14; ComponentLink1Description: Manufacturer URL; ComponentLink1URL: http://www.national.com/; ComponentLink2Description: LM2574HV Datasheet; ComponentLink2URL: http://www.national.com/ds/LM/LM2574HV.pdf; ComponentLink3Description: LM2574HV Web Page; ComponentLink3URL: http://www.national.com/pf/LM/LM2574HV.html; ComponentLink4Description: M14B Package Page; ComponentLink4URL: http://www.national.com/packaging/folders/m14b.html
footprint M14B_N (SOIC, 14-Leads, Body 9x7.5mm, Pitch 1.27mm, IPC Medium Density)
footprint M14B_L (SOIC, 14-Leads, Body 9x7.5mm, Pitch 1.27mm, IPC High Density)
footprint M14B_M (SOIC, 14-Leads, Body 9x7.5mm, Pitch 1.27mm, IPC Low Density)
pins: 1 NC, 2 NC, 3 FB (in), 4 SGND (power), 5 ON/OFF (in), 6 PGND (power), 7 NC, 8 NC, 9 NC, 10 VIN (power), 11 NC, 12 OUT (power), 13 NC, 14 NC

## LM2574HVM-12/NOPB
designator U?
SIMPLE SWITCHER® 0.5A Step-Down Voltage Regulator, 14-pin Wide SOIC, Pb-Free; PartNumber: LM2574HVM-12/NOPB; Manufacturer: National Semiconductor; PackageTopMarking: NSUZXYTTE#*LM2574HVM*-12 P+; PowerWise: N; High-Reliability: Y; DatasheetVersion: Jun-1999; PackageVersion: revD, Feb-1987; PackageReference: M14B; PackageDescription: Molded Package, S.O., .300in Wide, 14 Lead; RoHS: Y; PinCount: 14; CompType: Switcher; Code_JEDEC: MS-013-AF; Code_IPC: SOIC127P1030-14; ComponentLink1Description: Manufacturer URL; ComponentLink1URL: http://www.national.com/; ComponentLink2Description: LM2574HV Datasheet; ComponentLink2URL: http://www.national.com/ds/LM/LM2574HV.pdf; ComponentLink3Description: LM2574HV Web Page; ComponentLink3URL: http://www.national.com/pf/LM/LM2574HV.html; ComponentLink4Description: M14B Package Page; ComponentLink4URL: http://www.national.com/packaging/folders/m14b.html
footprint M14B_N (SOIC, 14-Leads, Body 9x7.5mm, Pitch 1.27mm, IPC Medium Density)
footprint M14B_L (SOIC, 14-Leads, Body 9x7.5mm, Pitch 1.27mm, IPC High Density)
footprint M14B_M (SOIC, 14-Leads, Body 9x7.5mm, Pitch 1.27mm, IPC Low Density)
pins: 1 NC, 2 NC, 3 FB (in), 4 SGND (power), 5 ON/OFF (in), 6 PGND (power), 7 NC, 8 NC, 9 NC, 10 VIN (power), 11 NC, 12 OUT (power), 13 NC, 14 NC

## LM2574HVM-15
designator U?
SIMPLE SWITCHER® 0.5A Step-Down Voltage Regulator, 14-pin Wide SOIC; PartNumber: LM2574HVM-15; Manufacturer: National Semiconductor; PackageTopMarking: NSUZXYTTE#*LM2574HVM*-15 P+; PowerWise: N; High-Reliability: Y; DatasheetVersion: Jun-1999; PackageVersion: revD, Feb-1987; PackageReference: M14B; PackageDescription: Molded Package, S.O., .300in Wide, 14 Lead; RoHS: N; PinCount: 14; CompType: Switcher; Code_JEDEC: MS-013-AF; Code_IPC: SOIC127P1030-14; ComponentLink1Description: Manufacturer URL; ComponentLink1URL: http://www.national.com/; ComponentLink2Description: LM2574HV Datasheet; ComponentLink2URL: http://www.national.com/ds/LM/LM2574HV.pdf; ComponentLink3Description: LM2574HV Web Page; ComponentLink3URL: http://www.national.com/pf/LM/LM2574HV.html; ComponentLink4Description: M14B Package Page; ComponentLink4URL: http://www.national.com/packaging/folders/m14b.html
footprint M14B_N (SOIC, 14-Leads, Body 9x7.5mm, Pitch 1.27mm, IPC Medium Density)
footprint M14B_L (SOIC, 14-Leads, Body 9x7.5mm, Pitch 1.27mm, IPC High Density)
footprint M14B_M (SOIC, 14-Leads, Body 9x7.5mm, Pitch 1.27mm, IPC Low Density)
pins: 1 NC, 2 NC, 3 FB (in), 4 SGND (power), 5 ON/OFF (in), 6 PGND (power), 7 NC, 8 NC, 9 NC, 10 VIN (power), 11 NC, 12 OUT (power), 13 NC, 14 NC